# Altium footprint library PcbLib1.PcbLib: 1 footprints
Each footprint in its own frame and in the unit in brackets; x right, y up, seen from the top. Pads: shape width x height; smd on the part's side, far side on the other; paste and mask are expansions set on the pad; w line width, h text height; cw(c..) or ccw(c..) is an arc to the next point about the centre after c.
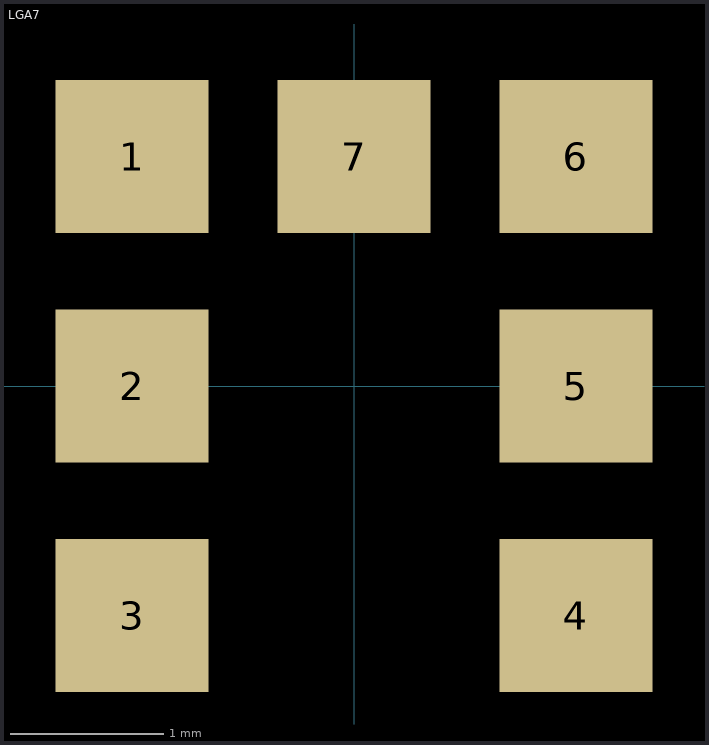
[diagram p0: the footprint, top view; thin cyan lines are the x and y axes]

## LGA7 [mm]
pads (7):
  rect 1x1 smd paste+0: 1(-1.45,1.5)
  rect 1x1 smd: 2(-1.45,0) 3(-1.45,-1.5) 4(1.45,-1.5) 5(1.45,0) 6(1.45,1.5) 7(0,1.5)
Top Layer:
  pour cut-out: -1.778,2.159
3D body: height 0.25, standoff 0, extent -1.905,-1.905 1.905,1.905
3D body: height 0.25, standoff 0, extent -0.508,0 -0.508,0